# Altium footprint library Connecteur.PcbLib: 164 footprints (part 9 of 11)
Each footprint in its own frame and in the unit in brackets; x right, y up, seen from the top. Pads: shape width x height; smd on the part's side, far side on the other; paste and mask are expansions set on the pad; w line width, h text height; cw(c..) or ccw(c..) is an arc to the next point about the centre after c.
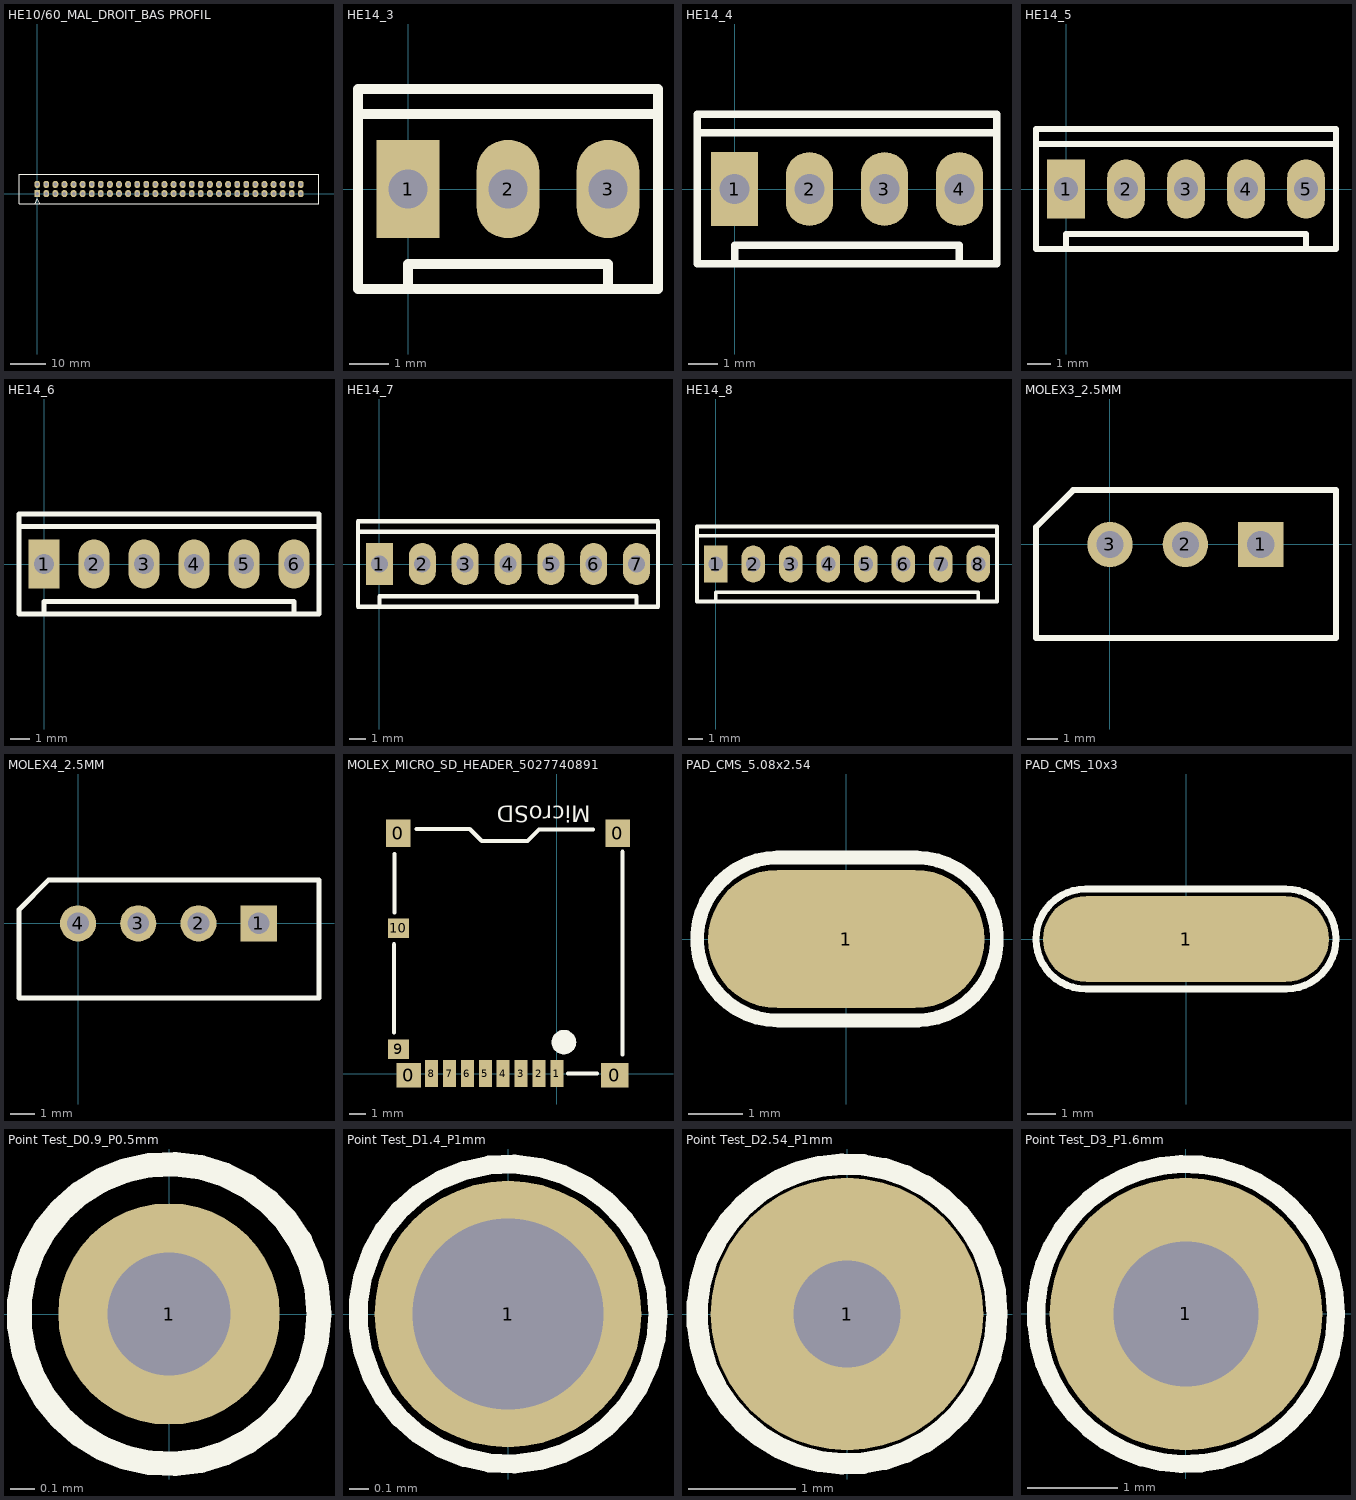
[diagram p8: the footprints below, top view; thin cyan lines are the x and y axes]

## HE10/60_MAL_DROIT_BAS PROFIL [mm] "Connector; HE10; 60 Position; Male; Right Low Profile; Pin Spacing=2.54mm"
height 9
pads (60):
  rect 1.63x2 hole 1: 1(0,0)
  oval 1.63x2 hole 1: 2(0,2.54) 3(2.54,0) 4(2.54,2.54) 5(5.08,0) 6(5.08,2.54) 7(7.62,0) 8(7.62,2.54) 9(10.16,0) 10(10.16,2.54) 11(12.7,0) 12(12.7,2.54) 13(15.24,0) 14(15.24,2.54) 15(17.78,0) 16(17.78,2.54) 17(20.32,0) 18(20.32,2.54) 19(22.86,0) 20(22.86,2.54) 21(25.4,0) 22(25.4,2.54) 23(27.94,0) 24(27.94,2.54) 25(30.48,0) 26(30.48,2.54) 27(33.02,0) 28(33.02,2.54) 29(35.56,0) 30(35.56,2.54) 31(38.1,0) 32(38.1,2.54) 33(40.64,0) 34(40.64,2.54) 35(43.18,0) 36(43.18,2.54) 37(45.72,0) 38(45.72,2.54) 39(48.26,0) 40(48.26,2.54) 41(50.8,0) 42(50.8,2.54) 43(53.34,0) 44(53.34,2.54) 45(55.88,0) 46(55.88,2.54) 47(58.42,0) 48(58.42,2.54) 49(60.96,0) 50(60.96,2.54) 51(63.5,0) 52(63.5,2.54) 53(66.04,0) 54(66.04,2.54) 55(68.58,0) 56(68.58,2.54) 57(71.12,0) 58(71.12,2.54) 59(73.66,0) 60(73.66,2.54)
Top Overlay:
  lines w0.254: -0.508,-2.79 0,-1.52 ; 0,-1.524 0.608,-2.74 ; -5.08,-2.79 -5.08,5.33 78.74,5.33 78.74,-2.79 -5.08,-2.79

## HE14_3 [mm] "Connector; HE14; 3 Position; Pin Spacing=2.54mm"
height 11.4
pads (3):
  rect 1.6x2.5 hole 1: 1(0,0)
  oval 1.6x2.5 hole 1: 2(2.54,0) 3(5.08,0)
Top Overlay:
  lines w0.254: -1.27,1.91 6.35,1.91 ; 0,-2.54 0,-1.91 5.08,-1.91 5.08,-2.54 ; -1.27,-2.54 -1.27,2.54 6.35,2.54 6.35,-2.54 -1.27,-2.54
3D body: height 11.42, standoff -2.48, extent -1.27,-2.515 6.35,2.485

## HE14_4 [mm] "Connector; HE14; 4 Position; Pin Spacing=2.54mm"
height 11.4
pads (4):
  rect 1.6x2.5 hole 1: 1(0,0)
  oval 1.6x2.5 hole 1: 2(2.54,0) 3(5.08,0) 4(7.62,0)
Top Overlay:
  lines w0.254: -1.27,1.91 8.89,1.91 ; 0,-2.54 0,-1.91 7.62,-1.91 7.62,-2.54 ; -1.27,-2.54 -1.27,2.54 8.89,2.54 8.89,-2.54 -1.27,-2.54
3D body: height 11.42, standoff -2.48, extent -1.295,-2.449 8.865,2.551

## HE14_5 [mm] "Connector; HE14; 5 Position; Pin Spacing=2.54mm"
height 11.4
pads (5):
  rect 1.6x2.5 hole 1: 1(0,0)
  oval 1.6x2.5 hole 1: 2(2.54,0) 3(5.08,0) 4(7.62,0) 5(10.16,0)
Top Overlay:
  lines w0.254: -1.27,1.91 11.43,1.91 ; 0,-2.54 0,-1.91 10.16,-1.91 10.16,-2.54 ; -1.27,-2.54 -1.27,2.54 11.43,2.54 11.43,-2.54 -1.27,-2.54

## HE14_6 [mm] "Connector; HE14; 6 Position; Pin Spacing=2.54mm"
height 11.4
pads (6):
  rect 1.6x2.5 hole 1: 1(0,0)
  oval 1.6x2.5 hole 1: 2(2.54,0) 3(5.08,0) 4(7.62,0) 5(10.16,0) 6(12.7,0)
Top Overlay:
  lines w0.254: -1.27,1.91 13.97,1.91 ; 0,-2.54 0,-1.91 12.7,-1.91 12.7,-2.54 ; -1.27,-2.54 -1.27,2.54 13.97,2.54 13.97,-2.54 -1.27,-2.54

## HE14_7 [mm] "Connector; HE14; 7 Position; Pin Spacing=2.54mm"
height 11.4
pads (7):
  rect 1.6x2.5 hole 1: 1(0,0)
  oval 1.6x2.5 hole 1: 2(2.54,0) 3(5.08,0) 4(7.62,0) 5(10.16,0) 6(12.7,0) 7(15.24,0)
Top Overlay:
  lines w0.254: -1.27,1.91 16.51,1.91 ; 0,-2.54 0,-1.91 15.24,-1.91 15.24,-2.54 ; -1.27,-2.54 16.51,-2.54 16.51,2.54 -1.27,2.54 -1.27,-2.54

## HE14_8 [mm] "Connector; HE14; 8 Position; Pin Spacing=2.54mm"
height 11.4
pads (8):
  rect 1.6x2.5 hole 1: 1(0,0)
  oval 1.6x2.5 hole 1: 2(2.54,0) 3(5.08,0) 4(7.62,0) 5(10.16,0) 6(12.7,0) 7(15.24,0) 8(17.78,0)
Top Overlay:
  lines w0.254: -1.27,1.91 19.05,1.91 ; 0,-2.54 0,-1.91 17.78,-1.91 ; 17.78,-2.54 17.78,-2.032 ; -1.27,-2.54 19.05,-2.54 19.05,2.54 -1.27,2.54 -1.27,-2.54

## MOLEX3_2.5MM [mm] "Ref Molex : 22-03-5035 - 3 voies - 2.5mm"
height 5.9
pads (3):
  rect 1.5x1.5 hole 0.9: 1(5,0)
  round 1.5 hole 0.9: 2(2.5,0) 3(0,0)
Top Overlay:
  lines w0.2: -2.45,-3.099 7.493,-3.099 7.493,1.803 -1.219,1.803 -2.45,0.573 -2.45,-3.099
3D body: height 5.92, standoff -3.48, extent -2.461,-3.048 7.439,1.852

## MOLEX4_2.5MM [mm] "Ref Molex : 22-03-5045 - 4 voies - 2.5mm"
height 5.9
pads (4):
  rect 1.5x1.5 hole 0.9: 1(7.5,0)
  round 1.5 hole 0.9: 2(5,0) 3(2.5,0) 4(0,0)
Top Overlay:
  lines w0.2: -2.45,-3.099 -2.45,0.573 -1.219,1.803 10,1.803 10,-3.099 -2.45,-3.099
3D body: height 5.92, standoff -3.48, extent -2.441,-3.073 9.959,1.827

## MOLEX_MICRO_SD_HEADER_5027740891 [mm]
pads (15):
  rect 1.5x1.7 smd: 0(-9.754,14.783) 0(3.74,14.783)
  rect 1.5x1.5 smd: 0(-9.1,-0.1)
  rect 1.7x1.5 smd: 0(3.55,-0.1)
  rect 0.8x1.68 smd: 1(0,0) 2(-1.1,0) 3(-2.2,0) 4(-3.3,0) 5(-4.4,0) 6(-5.5,0) 7(-6.6,0) 8(-7.7,0)
  rect 1.3x1.2 smd: 9(-9.75,1.49) 10(-9.75,8.94)
  round 1.524 on Top Overlay: ""(0.432,1.93)
Top Overlay:
  lines w0.254: -10.008,2.515 -10.008,7.95 ; -9.982,9.906 -9.982,13.513 ; -8.636,15.037 -5.359,15.037 -4.623,14.3 -1.803,14.3 -1.092,15.011 2.21,15.011 ; 0.686,0 2.464,0 ; 4.039,1.168 4.039,13.64
  text "MicroSD" at 2.083,16.485 h1.02
3D body: height 1.88, standoff 0.08, extent -10.096,-0.684 4.204,15.316

## PAD_CMS_5.08x2.54 [mm] "Pad pour souder un fil"
pads (1):
  oval 5.08x2.54 smd paste+0.005: 1(0,0)
Top Overlay:
  lines w0.254: -1.27,1.499 1.295,1.499 ; -1.245,1.499 ccw(c-1.245,0) -1.245,-1.499 1.321,-1.499 ; 1.27,-1.499 ccw(c1.27,0) 1.27,1.499
3D body: height 0.25, standoff 0, extent -2.159,-0.762 2.134,0.762

## PAD_CMS_10x3 [mil] "Pad pour souder un fil"
pads (1):
  oval 400x120 smd paste+0.2: 1(0,0)
Top Overlay:
  lines w10: -140.68,70 ccw(c-140,0) -140,-70 140.68,-70 ccw(c140,0) 140,70 -140.68,70
3D body: height 10, standoff 0, extent -135,-30 135,30

## Point Test_D0.9_P0.5mm [mm] "Test point for PCB_Hole 0.5mm"
pads (1):
  round 0.9 hole 0.5: 1(0,0)
Top Overlay:
  circle w0.1: c0,0 r0.61

## Point Test_D1.4_P1mm [mm] "Test point for PCB_Hole 1mm"
pads (1):
  round 1.4 hole 1: 1(0,0)
Top Overlay:
  circle w0.1: c0,0 r0.787

## Point Test_D2.54_P1mm [mm] "Test point for PCB_Hole 1mm"
height 8
pads (1):
  round 2.54 hole 1: 1(0,0)
Top Overlay:
  circle w0.2: c0,0 r1.397

## Point Test_D3_P1.6mm [mm] "Test point for PCB_Hole 1.6mm"
height 8
pads (1):
  round 3 hole 1.6: 1(0,0)
Top Overlay:
  circle w0.2: c0,0 r1.651